# EAGLE library part SI8660 (library GibbotV5)
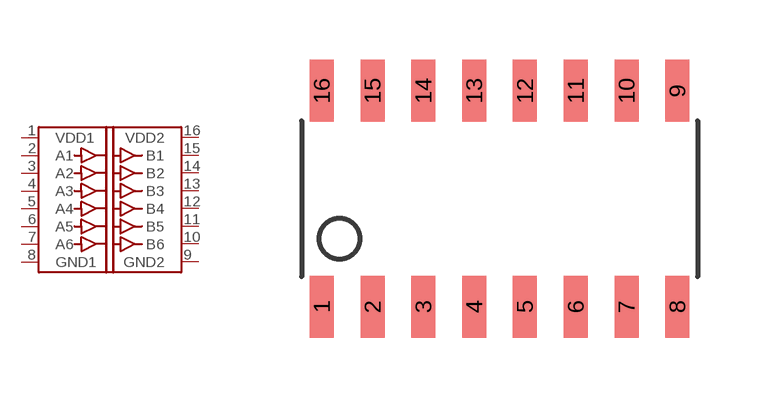
[diagram p12: symbol with the pads of SOIC16-N; footprint SOIC16-N]

Designator prefix -

## SI8660  [SOIC16-N]
1  VDD1
2  A1
3  A2
4  A3
5  A4
6  A5
7  A6
8  GND1
9  GND2
10  B6
11  B5
12  B4
13  B3
14  B2
15  B1
16  VDD2

## Footprint SOIC16-N (pad centres in mm)
smd 0.6 x 1.55: 1 -4.445,-2.7; 2 -3.175,-2.7; 3 -1.905,-2.7; 4 -0.635,-2.7; 5 0.635,-2.7; 6 1.905,-2.7; 7 3.175,-2.7; 8 4.445,-2.7; 9 4.445,2.7; 10 3.175,2.7; 11 1.905,2.7; 12 0.635,2.7; 13 -0.635,2.7; 14 -1.905,2.7; 15 -3.175,2.7; 16 -4.445,2.7